# Altium footprint library JQC-3F-1C-24VDC.PcbLib: 1 footprints
Each footprint in its own frame and in the unit in brackets; x right, y up, seen from the top. Pads: shape width x height; smd on the part's side, far side on the other; paste and mask are expansions set on the pad; w line width, h text height; cw(c..) or ccw(c..) is an arc to the next point about the centre after c.
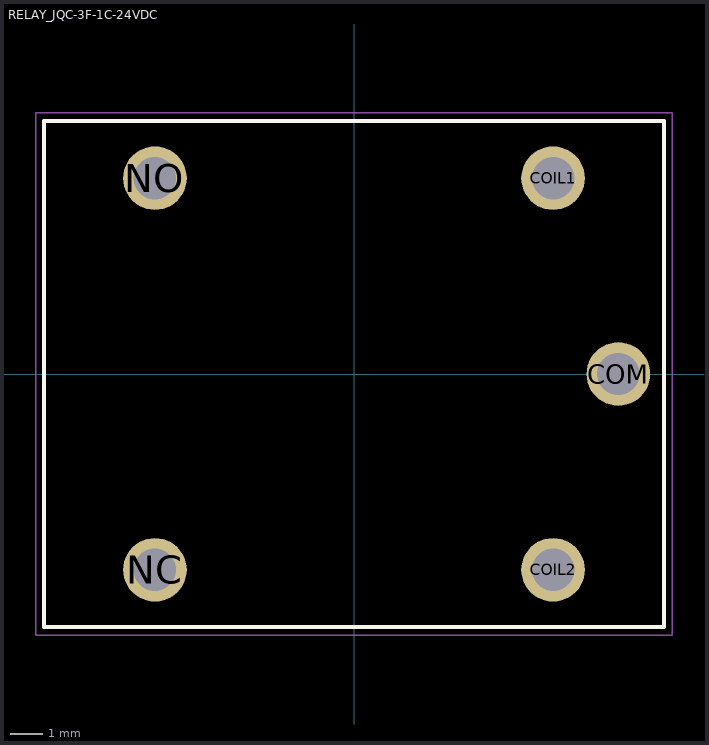
[diagram p0: the footprint, top view; thin cyan lines are the x and y axes]

## RELAY_JQC-3F-1C-24VDC [mm]
pads (5):
  round 1.95 hole 1.3: COIL1(6.1,6) COIL2(6.1,-6) COM(8.1,0) NC(-6.1,-6) NO(-6.1,6)
F.SilkS:
  lines w0.127: -9.5,-7.75 9.5,-7.75 9.5,7.75 -9.5,7.75 -9.5,-7.75
F.Fab:
  lines w0.127: -9.5,-7.75 9.5,-7.75 9.5,7.75 -9.5,7.75 -9.5,-7.75
F.CrtYd:
  lines w0.05: -9.75,-8 9.75,-8 9.75,8 -9.75,8 -9.75,-8